# Altium footprint library 39303037.PcbLib: 1 footprints
Each footprint in its own frame and in the unit in brackets; x right, y up, seen from the top. Pads: shape width x height; smd on the part's side, far side on the other; paste and mask are expansions set on the pad; w line width, h text height; cw(c..) or ccw(c..) is an arc to the next point about the centre after c.
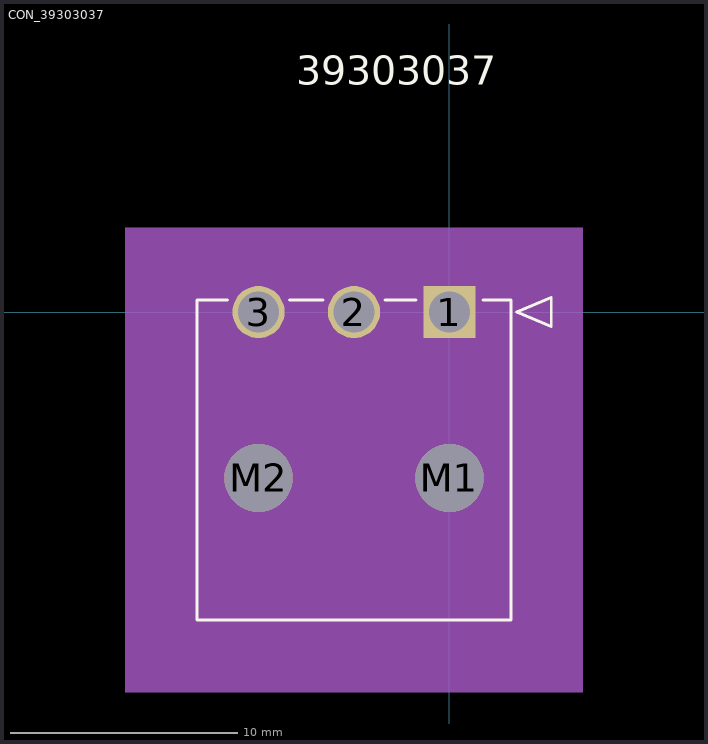
[diagram p0: the footprint, top view; thin cyan lines are the x and y axes]

## CON_39303037 [mm]
pads (5):
  rect 2.3x2.3 hole 1.8 mask+0.076: 1(0,0)
  round 2.3 hole 1.8 mask+0.076: 2(-4.2,0) 3(-8.4,0)
  round 3 hole 3 unplated mask+0.076: M1(0,-7.3) M2(-8.4,-7.3)
Top Overlay:
  lines w0.127: -9.769,0.535 -11.1,0.535 -11.1,-13.55 2.7,-13.55 2.7,0.535 1.47,0.535 ; -7.031,0.535 -5.569,0.535 ; -2.831,0.535 -1.47,0.535 ; 2.954,0 4.478,0.635 4.478,-0.635 2.954,0
  text "39303037" at -6.74,10.002 h1.27
Mechanical 3:
  text "PTH_DRILL_SIZE:_1.8_MM,_TOL:_+0.05/-0.05" at -16.9,-20.478 h1.27
  text "NPTH_DRILL_SIZE:_3.0_MM,_TOL:_+0.05/-0.05" at -17.217,-23.018 h1.27
Mechanical 5:
  region: -14.275,3.71 5.875,3.71 5.875,-16.725 -14.275,-16.725
Mechanical 10:
  text "PTH_DRILL_SIZE:_1.8_MM,_TOL:_+0.05/-0.05" at -16.9,-20.478 h1.27
  text "NPTH_DRILL_SIZE:_3.0_MM,_TOL:_+0.05/-0.05" at -17.217,-23.018 h1.27
Mechanical 13:
  lines w0.127: -11.1,-13.55 2.7,-13.55 2.7,0.535 -11.1,0.535 -11.1,-13.55 ; 2.954,0 4.478,0.635 4.478,-0.635 2.954,0
  text "39303037" at -6.74,10.002 h1.27
Mechanical 15:
  region: 3.97,1.805 -12.37,1.805 -12.37,-14.82 3.97,-14.82
  lines w0.127: -12.37,-14.82 -12.37,1.805 3.97,1.805 3.97,-14.82 -12.37,-14.82
3D body: height 0.25, standoff 0, extent 0,0 0.254,0.254
3D body "039303037.step": height 7.56, standoff -3.14, extent -11.345,-13.574 2.455,0.511